# Altium schematic symbol library Button.SchLib: 5 symbols
Pins are listed as number, name and electrical type; pins without a type are passive.

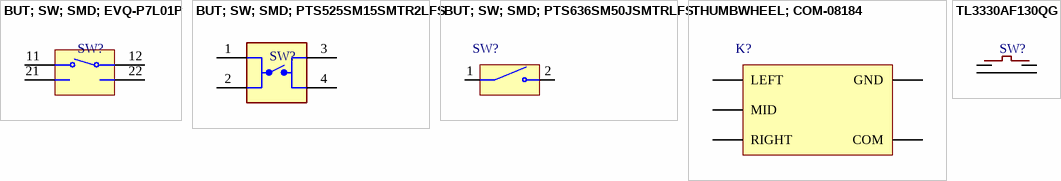
[diagram p0: symbols BUT; SW; SMD; EVQ-P7L01P to TL3330AF130QG]

## BUT; SW; SMD; EVQ-P7L01P
designator SW?, comment https://www.digikey.com/en/products/detail/panasonic-electronic-components/EVQ-P7L01P/4429453  (value not drawn)
Tactile Switch SPST-NO Side Actuated Surface Mount, Right Angle; MF: Panasonic Electronic Components; SnapEDA_Link: https://www.snapeda.com/parts/EVQ-P7L01P/Panasonic+Electronic+Components/view-part/?ref=snap; Package: None; MP: EVQ-P7L01P; Check_prices: https://www.snapeda.com/parts/EVQ-P7L01P/Panasonic+Electronic+Components/view-part/?ref=eda; Purchase-URL: https://pricing.snapeda.com/search/part/EVQ-P7L01P/?ref=eda; Digi-Key_Part_Number: P16769TR-ND; Value: *
footprint SW-HxLxW-1.1x3.5x2.9-PEC
pins: 11 1, 12 2, 21 1, 22 2

## BUT; SW; SMD; PTS525SM15SMTR2LFS
designator SW?, comment Tactile Switch SPST-NO Top Actuated Surface Mount  (value not drawn)
Switch Tactile N.O. SPST Round Button Gull Wing 0.02A 15VDC 1000000Cycles 1.569N SMD T/R; Manufacturer: ITT C&K; Manufacturer Part Number: PTS525SM15SMTR2LFS; Contact Resistance: 100mR; Current Rating: 20mA; Number of Positions: 2NUMBER; Voltage Rating (DC): 15V; Designer: TVBac; Supplier: Digikey; Supplier Part Number: CKN9104CT-ND; RoHS: Yes; Category: Tactile Switches; Stock: 237048; Pricing: 1=0.53, 10=0.432, 25=0.3976, 100=0.3502, 250=0.32172, 500=0.3015, 1000=0.2875 (USD); Material: 158ConductorMaterial; Height: 1.6mm; Lead Free: 5697LeadFree; ComponentLink1URL: http://www.mouser.com/ds/2/60/-466825.pdf?src-supplier=Mouser; ComponentLink1Description: http://www.mouser.com/ds/2/60/-466825.pdf?src-supplier=Mouser; ComponentLink2URL: http://datasheet.octopart.com/PTS525SM15SMTR2LFS-C%26K-Components-datasheet-62289027.pdf?src-supplier=Distrelec; ComponentLink2Description: http://datasheet.octopart.com/PTS525SM15SMTR2LFS-C%26K-Components-datasheet-62289027.pdf?src-supplier=Distrelec; ComponentLink3URL: http://datasheet.octopart.com/PTS525SM15SMTR2LFS-C%26K-Components-datasheet-62289027.pdf?src-supplier=Rs; ComponentLink3Description: http://datasheet.octopart.com/PTS525SM15SMTR2LFS-C%26K-Components-datasheet-62289027.pdf?src-supplier=Rs; ComponentLink4URL: http://datasheet.octopart.com/PTS525SM15SMTR2LFS-C%26K-Components-datasheet-62289027.pdf?src-supplier=Newark; ComponentLink4Description: http://datasheet.octopart.com/PTS525SM15SMTR2LFS-C%26K-Components-datasheet-62289027.pdf?src-supplier=Newark; ComponentLink5URL: http://datasheet.octopart.com/PTS525SM15SMTR2LFS-C%26K-Components-datasheet-62289027.pdf?src-supplier=Avnet; ComponentLink5Description: http://datasheet.octopart.com/PTS525SM15SMTR2LFS-C%26K-Components-datasheet-62289027.pdf?src-supplier=Avnet; ComponentLink6URL: http://datasheet.octopart.com/PTS525SM15SMTR2LFS-C%26K-Components-datasheet-62289027.pdf?src-supplier=Farnell; ComponentLink6Description: http://datasheet.octopart.com/PTS525SM15SMTR2LFS-C%26K-Components-datasheet-62289027.pdf?src-supplier=Farnell; ComponentLink7URL: https://www.ckswitches.com/media/1467/pts525.pdf?src-supplier=Digikey; ComponentLink7Description: https://www.ckswitches.com/media/1467/pts525.pdf?src-supplier=Digikey; ComponentLink8URL: https://datasheet.octopart.com/PTS525SM15SMTR2LFS-C%26K-Components-datasheet-41172758.pdf?src-supplier=Future+Electronics; ComponentLink8Description: https://datasheet.octopart.com/PTS525SM15SMTR2LFS-C%26K-Components-datasheet-41172758.pdf?src-supplier=Future+Electronics; ComponentLink9URL: https://datasheet.octopart.com/PTS525SM15SMTR2LFS-C%26K-Components-datasheet-110647870.pdf?src-supplier=TME; ComponentLink9Description: https://datasheet.octopart.com/PTS525SM15SMTR2LFS-C%26K-Components-datasheet-110647870.pdf?src-supplier=TME; ComponentLink10Description: Link Digikey; ComponentLink10URL: https://www.digikey.com/en/products/detail/c-k/PTS525SM15SMTR2-LFS/1146855
footprint SW-HxLxW-5.25x5.25x1.50-C&K
pins: 1, 2, 3, 4

## BUT; SW; SMD; PTS636SM50JSMTRLFS
designator SW?, comment Tactile Switch SPST-NO Top Actuated Surface Mount  (value not drawn)
Switch Tactile N.O. SPST Rectangular Button J-Bend 0.05A 12VDC 1.77N SMD T/R; Manufacturer: ITT C&K; Manufacturer Part Number: PTS636SM50JSMTRLFS; Contact Resistance: 100mR; Number of Positions: 2NUMBER; Supplier: Digikey; Supplier Part Number: CKN12319-1-ND; RoHS: No; Category: Tactile Switches; Stock: 80725; Pricing: 1=0.21, 10=0.199, 25=0.1888, 100=0.1717, 250=0.1614, 500=0.14766 (USD); ComponentLink1Description: Link Digikey; ComponentLink1URL: https://www.digikey.com/en/products/detail/c-k/PTS636-SM50J-SMTR-LFS/10071732
footprint SW-HxLxW-5.0x6.0x3.5-C&K
pins: 1 COM, 2 NO

## THUMBWHEEL; COM-08184
designator K?, comment Thumbwheel, 1 - Axis Digital (Mechanical Switch) Output  (value not drawn)
Surface Mount Navigation Switch; Manufacturer: SparkFun; Manufacturer Part Number: COM-08184; Mechanical Life: 100000Cycles; Voltage Rating (DC): 5V; Supplier: Digikey; Supplier Part Number: 1568-1827-ND; RoHS: No; Stock: 256; Pricing: 1=1.6 (USD); Mounting Technology: Surface Mount; Actuator Type: Thumbwheel; Electrical Life: 100000Cycles; Series: -; Packaging: Strip; ComponentLink1URL: https://cdn.sparkfun.com/datasheets/Components/Switches/LEVER8184.pdf?src-supplier=Digikey; ComponentLink1Description: https://cdn.sparkfun.com/datasheets/Components/Switches/LEVER8184.pdf?src-supplier=Digikey
footprint THUMBWHEEL
pins: 1 LEFT, 2 RIGHT, MP1 GND, MP2 COM, T1 MID

## TL3330AF130QG
designator SW?  (value not drawn)
Switch Tactile N.O. SPST Rectangular Button Gull Wing 0.05A 12VDC 50000Cycles 1.27N SMD T/R; Manufacturer: E-Switch; Manufacturer Part Number: TL3330AF130QG; Contact Current Rating: 50mA; Number of Positions: 2NUMBER; Supplier: Digikey; Supplier Part Number: EG4388CT-ND; RoHS: Yes; Category: Tactile Switches; Stock: 2723; Pricing: 1=0.53, 10=0.454, 25=0.4228, 100=0.3779, 250=0.35008, 500=0.33046, 1000=0.31228 (USD); Height: 3.75mm; ComponentLink1URL: https://datasheet.ciiva.com/2900/p010950-2900785.pdf?src-supplier=Digikey; ComponentLink1Description: https://datasheet.ciiva.com/2900/p010950-2900785.pdf?src-supplier=Digikey; ComponentLink2URL: https://datasheet.ciiva.com/23713/tl3330-23713381.pdf?src-supplier=Newark; ComponentLink2Description: https://datasheet.ciiva.com/23713/tl3330-23713381.pdf?src-supplier=Newark; ComponentLink3URL: https://datasheet.ciiva.com/2900/p010950-2900786.pdf?src-supplier=Digikey; ComponentLink3Description: https://datasheet.ciiva.com/2900/p010950-2900786.pdf?src-supplier=Digikey; ComponentLink4URL: https://datasheet.ciiva.com/2900/p010950-2900787.pdf?src-supplier=Digikey; ComponentLink4Description: https://datasheet.ciiva.com/2900/p010950-2900787.pdf?src-supplier=Digikey
footprint TL3330AF130QG
pins: 1, 2, 3, 4